# EAGLE library part MMDT3906VC-7 (library Diodes_Inc_By_element14_Batch_1)
DUAL PNP SMALL SIGNAL SURFACE MOUNT TRANSISTOR
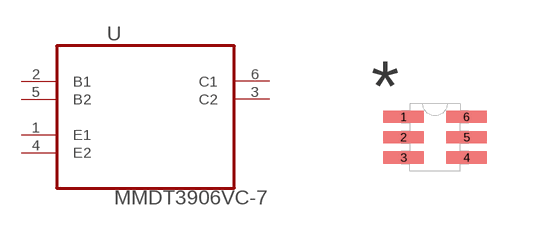
[diagram p40: symbol with the pads of SOT50P170X60-6N; footprint SOT50P170X60-6N]

Designator prefix U

## MMDT3906VC-7 (MPN: MMDT3906VC-7; OC_FARNELL: 1773593; OC_NEWARK: 51R6831; PACKAGE: SOT-563-6; SUPPLIER: Diodes Inc)  [SOT50P170X60-6N]
1  E1  pas
2  B1  pas
3  C2  pas
4  E2  pas
5  B2  pas
6  C1  pas

## Footprint SOT50P170X60-6N (pad centres in mm)
smd 1.016 x 0.305: 1 -0.787,0.508; 2 -0.787,0; 3 -0.787,-0.508; 4 0.787,-0.508; 5 0.787,0; 6 0.787,0.508